# Altium footprint library FUSRR505W81L660T250H1360.PcbLib: 1 footprints
Each footprint in its own frame and in the unit in brackets; x right, y up, seen from the top. Pads: shape width x height; smd on the part's side, far side on the other; paste and mask are expansions set on the pad; w line width, h text height; cw(c..) or ccw(c..) is an arc to the next point about the centre after c.
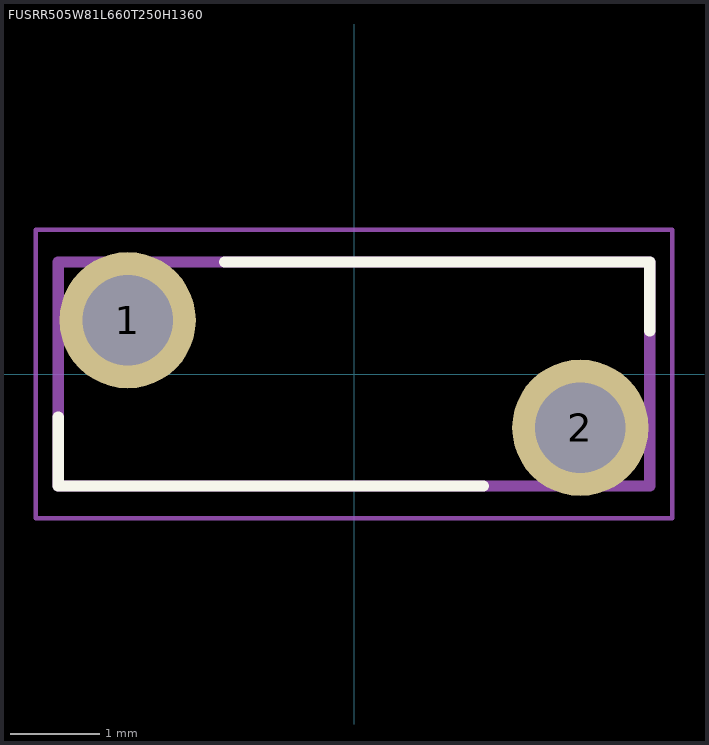
[diagram p0: the footprint, top view; thin cyan lines are the x and y axes]

## FUSRR505W81L660T250H1360 [mm]
pads (2):
  round 1.52 hole 1.01: 1(-2.525,0.6) 2(2.525,-0.6)
Top Overlay:
  lines w0.127: -3.3,-0.48 -3.3,-1.25 1.445,-1.25 ; -1.445,1.25 3.3,1.25 3.3,0.48
Mechanical 13:
  lines w0.127: -3.3,-1.25 -3.3,1.25 3.3,1.25 3.3,-1.25 -3.3,-1.25
Mechanical 15:
  lines w0.05: -3.55,-1.61 3.55,-1.61 3.55,1.61 -3.55,1.61 -3.55,-1.61